# EAGLE library part LTC3530EDD (library xmaker)
Linear Technology LTC3530 - Wide Input Voltage Synchronous Buck-Boost DC/DC Converter DFN Version
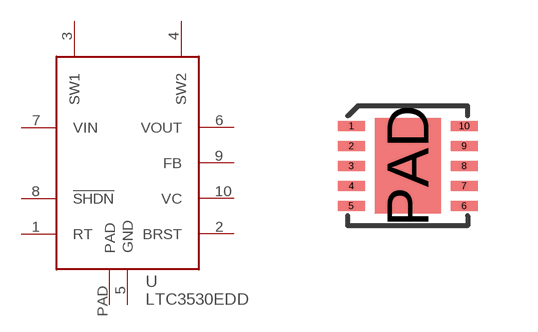
[diagram p21: symbol with the pads of DFN10-3X3-0.5; footprint DFN10-3X3-0.5]

Designator prefix -

## LTC3530EDD  [DFN10-3X3-0.5]
1  RT
2  BRST
3  SW1
4  SW2
5  GND
6  VOUT
7  VIN
8  !SHDN
9  FB
10  VC
PAD  PAD

## Footprint DFN10-3X3-0.5 (pad centres in mm)
Dual Flat No Lead Package 3mm x 3mm, 0.5mm pitch
smd 0.675 x 0.25: 1 -1.413,1; 2 -1.413,0.5; 3 -1.413,0; 4 -1.413,-0.5; 5 -1.413,-1; 6 1.413,-1; 7 1.413,-0.5; 8 1.413,0; 9 1.413,0.5; 10 1.413,1
smd 1.65 x 2.38: PAD 0,0